# EAGLE library part AEM10941_MINIBOARD (library AEM20940)
AEM10941 Mini Board
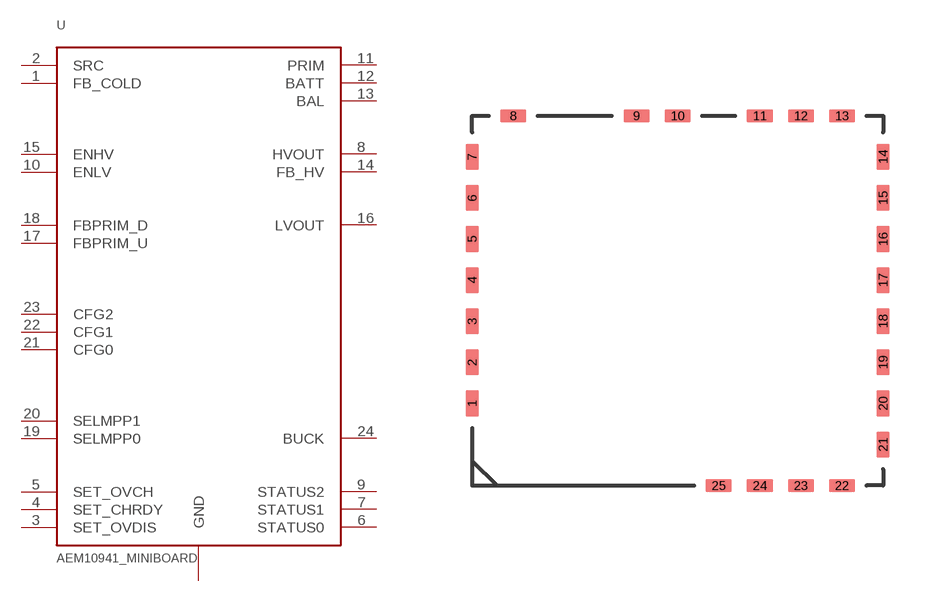
[diagram p4: symbol with the pads of AEM10941_MB; footprint AEM10941_MB]

Designator prefix U

## AEM10941_MINIBOARD  [AEM10941_MB]
1  FB_COLD
2  SRC  in
3  SET_OVDIS
4  SET_CHRDY
5  SET_OVCH
6  STATUS0  out
7  STATUS1  out
8  HVOUT  out
9  STATUS2  out
10  ENLV  in
11  PRIM
12  BATT
13  BAL
14  FB_HV  in
15  ENHV  in
16  LVOUT  out
17  FBPRIM_U
18  FBPRIM_D
19  SELMPP0  in
20  SELMPP1  in
21  CFG0  in
22  CFG1  in
23  CFG2  in
24  BUCK
25  GND  pwr

## Footprint AEM10941_MB (pad centres in mm)
AEM10941 Mini Board Footprint
smd 0.4 x 0.8: 1 0,2.54; 2 0,3.81; 3 0,5.08; 4 0,6.35; 5 0,7.62; 6 0,8.89; 7 0,10.16; 14 12.7,10.16; 15 12.7,8.89; 16 12.7,7.62; 17 12.7,6.35; 18 12.7,5.08; 19 12.7,3.81; 20 12.7,2.54; 21 12.7,1.27
smd 0.8 x 0.4: 8 1.27,11.43; 9 5.08,11.43; 10 6.35,11.43; 11 8.89,11.43; 12 10.16,11.43; 13 11.43,11.43; 22 11.43,0; 23 10.16,0; 24 8.89,0; 25 7.62,0